# Altium footprint library Crystals.PcbLib: 5 footprints
Each footprint in its own frame and in the unit in brackets; x right, y up, seen from the top. Pads: shape width x height; smd on the part's side, far side on the other; paste and mask are expansions set on the pad; w line width, h text height; cw(c..) or ccw(c..) is an arc to the next point about the centre after c.
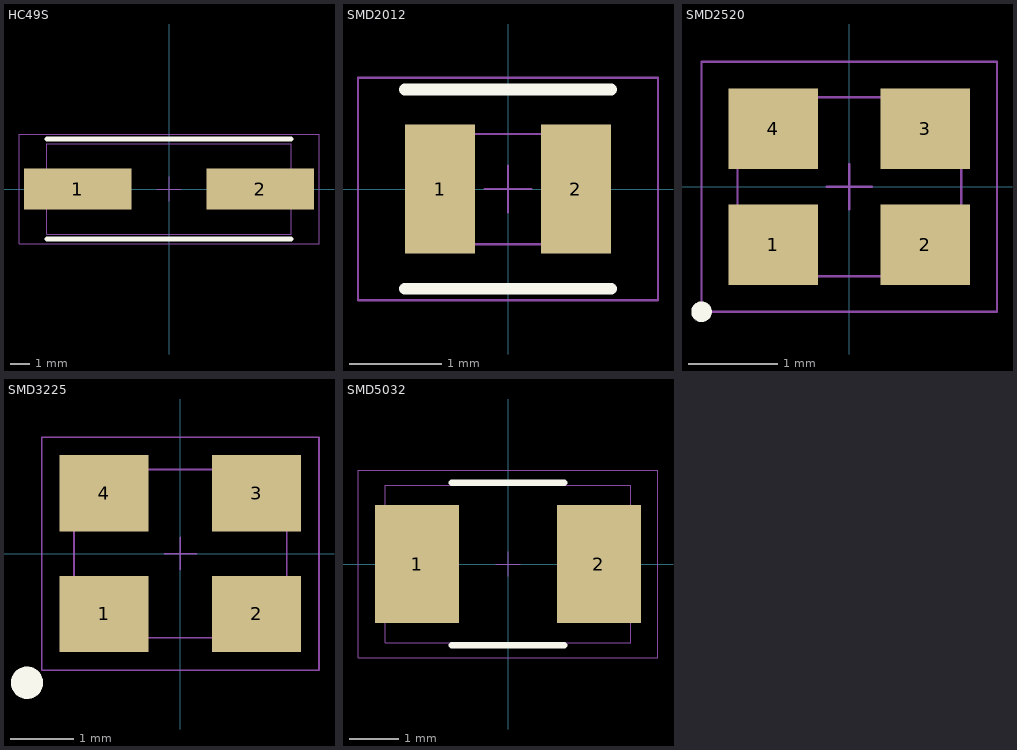
[diagram p0: the footprints below, top view; thin cyan lines are the x and y axes]

## HC49S [mil]
pads (2):
  rect 220x83 smd: 1(-187,0) 2(187,0)
Top Overlay:
  lines w10: -250,-102.5 250,-102.5 ; -250,102.5 250,102.5
Top Courtyard:
  lines w1: -307,-112.5 -307,112.5 307,112.5 307,-112.5 -307,-112.5
Top Assembly (Mech8):
  lines w1: -25,0 25,0 ; 0,-25 0,25 ; -250,-92.5 -250,92.5 250,92.5 250,-92.5 -250,-92.5
3D body "ABLS-LR-25.000MHZ-F-T--3DModel-STEP-400430.STEP": height 164.5, standoff 0.5, extent -250,-92.5 250,92.5

## SMD2012 [mil]
pads (2):
  rect 30x55 smd: 1(-29,0) 2(29,0)
Top Overlay:
  lines w5: -44,-42.5 44,-42.5 ; -44,42.5 44,42.5
Top Courtyard:
  lines w1: -64,-47.5 -64,47.5 64,47.5 64,-47.5 -64,-47.5
Top Assembly (Mech8):
  lines w1: -10,0 10,0 ; 0,-10 0,10 ; -39.5,-23.5 -39.5,23.5 39.5,23.5 39.5,-23.5 -39.5,-23.5
3D body "ABS06-107-32.768KHZ-T--3DModel-STEP-400430.STEP": height 24.6, standoff 0.5, extent -39.5,-23.5 39.5,23.5

## SMD2520 [mm]
pads (4):
  rect 1x0.9 smd: 1(-0.85,-0.65) 2(0.85,-0.65) 3(0.85,0.65) 4(-0.85,0.65)
Top Overlay:
  circle w0.127: c-1.651,-1.397 r0.051
Top Courtyard:
  lines w0.025: -1.651,-1.397 1.651,-1.397 1.651,1.397 -1.651,1.397 -1.651,-1.397
Top Assembly (Mech8):
  lines w0.025: -0.254,0 0.254,0 ; 0,-0.254 0,0.254 ; -1.25,-1 1.25,-1 1.25,1 -1.25,1 -1.25,-1
3D body "ECS-2033-500-BN.STEP": height 1, standoff 0, extent -1.25,-1 1.25,1

## SMD3225 [mm]
pads (4):
  rect 1.4x1.2 smd: 1(-1.2,-0.95) 2(1.2,-0.95) 3(1.2,0.95) 4(-1.2,0.95)
Top Overlay:
  circle w0.254: c-2.413,-2.032 r0.127
Top Courtyard:
  lines w0.025: -2.183,-1.833 -2.183,1.833 2.183,1.833 2.183,-1.833 -2.183,-1.833
Top Assembly (Mech8):
  lines w0.025: -0.254,0 0.254,0 ; 0,-0.254 0,0.254 ; -1.675,-1.325 -1.675,1.325 1.675,1.325 1.675,-1.325 -1.675,-1.325
3D body "NX3225SA.step": height 0.55, standoff 0, extent -1.6,-1.25 1.6,1.25

## SMD5032 [mm]
pads (2):
  rect 1.7x2.4 smd: 1(-1.85,0) 2(1.85,0)
Top Overlay:
  lines w0.127: -1.143,-1.651 1.143,-1.651 ; -1.143,1.651 1.143,1.651
Top Courtyard:
  lines w0.025: -3.048,-1.905 -3.048,1.905 3.048,1.905 3.048,-1.905 -3.048,-1.905
Top Assembly (Mech8):
  lines w0.025: -0.254,0 0.254,0 ; 0,-0.254 0,0.254 ; -2.5,-1.6 -2.5,1.6 2.5,1.6 2.5,-1.6 -2.5,-1.6
3D body "OSC5032.STEP": height 1.2, standoff 0, extent -2.5,-1.6 2.5,1.6